# Altium footprint library pulser_driver_footprints.PcbLib: 56 footprints (part 1 of 4)
Each footprint in its own frame and in the unit in brackets; x right, y up, seen from the top. Pads: shape width x height; smd on the part's side, far side on the other; paste and mask are expansions set on the pad; w line width, h text height; cw(c..) or ccw(c..) is an arc to the next point about the centre after c.
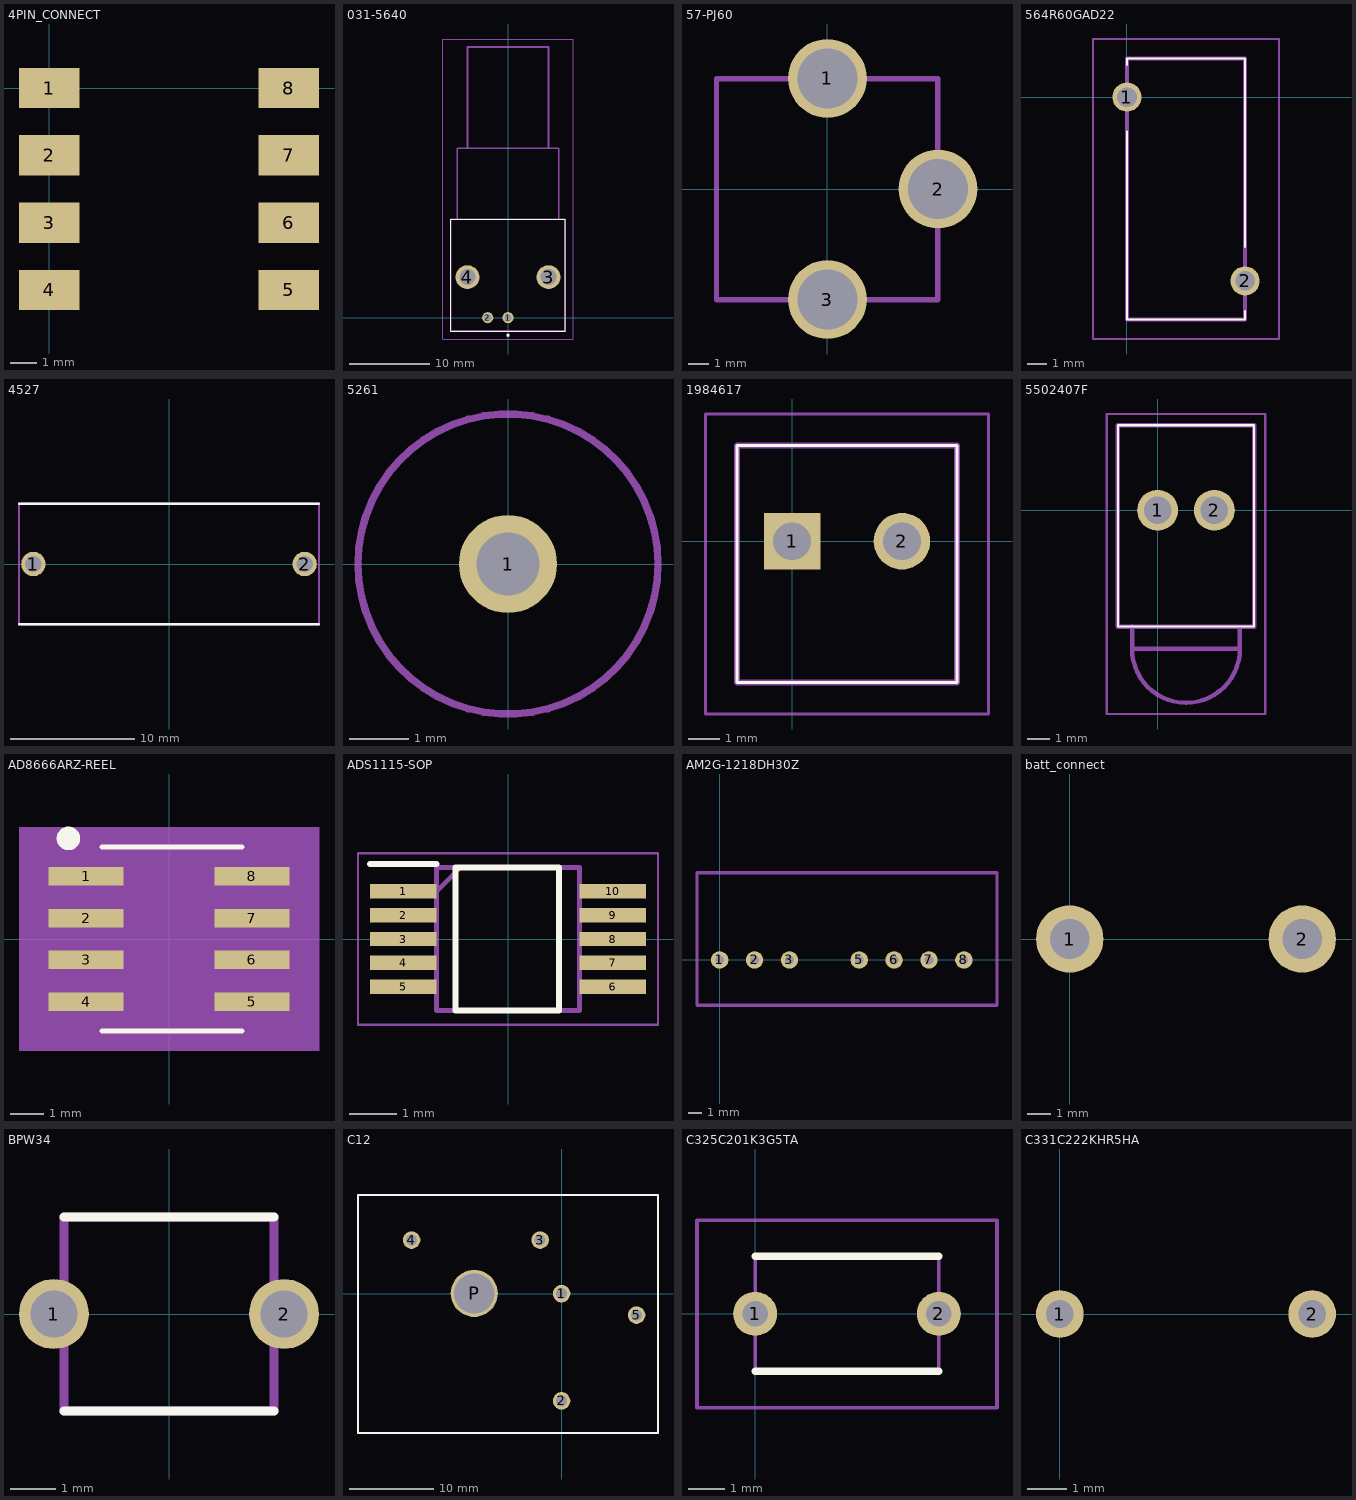
[diagram p0: the footprints below, top view; thin cyan lines are the x and y axes]

## 4PIN_CONNECT [mm]
pads (8):
  rect 2.29x1.52 smd: 1(0,0) 2(0,-2.54) 3(0,-5.08) 4(0,-7.62) 5(9.04,-7.62) 6(9.04,-5.08) 7(9.04,-2.54) 8(9.04,0)

## 031-5640 [mm]
pads (4):
  round 1.4 hole 0.9: 1(0,0) 2(-2.54,0)
  round 3 hole 2: 3(5.08,5.08) 4(-5.08,5.08)
Top Overlay:
  lines w0.1: -7.2,-1.67 7.2,-1.67 7.2,12.33 -7.2,12.33 -7.2,-1.67
  lines w0.2: 0,-2.3 cw(c0,-2.2) 0,-2.1 cw(c0,-2.2) 0,-2.3
Mechanical 13:
  lines w0.2: -6.35,12.33 -6.35,21.23 6.35,21.23 6.35,12.33 ; -5.08,21.23 -5.08,33.93 5.08,33.93 5.08,21.23 ; -7.2,-1.67 7.2,-1.67 7.2,12.33 -7.2,12.33 -7.2,-1.67
Mechanical 15:
  lines w0.1: -8.2,-2.67 8.2,-2.67 8.2,34.93 -8.2,34.93 -8.2,-2.67
3D body "031-5640.stp": height 16.07, standoff -3.59, extent -7.366,-13.081 7.366,33.655

## 57-PJ60 [mil]
pads (3):
  round 150 hole 114: 1(0,210.5) 2(210.5,0) 3(0,-210.5)
Mechanical 15:
  lines w10: -211,-211 210,-211 210,210 -211,210 -211,-211

## 564R60GAD22 [mm]
pads (2):
  round 1.515 hole 1.01: 1(0,0) 2(6.1,-9.5)
Top Overlay:
  lines w0.1: 0,-1.778 0,-11.5 6.1,-11.5 6.1,-11.049 ; 0,1.651 0,2 6.1,2 6.1,-7.747
Mechanical 13:
  lines w0.2: 0,-11.5 6.1,-11.5 6.1,2 0,2 0,-11.5
Mechanical 15:
  lines w0.1: -1.758,-12.5 7.857,-12.5 7.857,3 -1.758,3 -1.758,-12.5
3D body "564R60GAD22.stp": height 13.6, standoff -5, extent -0.402,-11.5 6.505,2

## 4527 [mm]
pads (2):
  round 1.97 hole 1.32: 1(-10.92,0) 2(10.92,0)
Top Overlay:
  lines w0.2: -12.08,-4.85 12.08,-4.85 ; -12.08,4.85 12.08,4.85
Mechanical 13:
  lines w0.2: -12.08,-4.85 12.08,-4.85 12.08,4.85 -12.08,4.85 -12.08,-4.85
3D body "4527.stp": height 10.69, standoff -4.41, extent -12.1,-4.85 12.1,4.85

## 5261 [mm]
pads (1):
  round 1.66 hole 1.06: 1(0,0)
Mechanical 15:
  circle w0.127: c0,0 r2.54

## 1984617 [mm]
pads (2):
  rect 1.8x1.8 hole 1.2: 1(0,0)
  round 1.8 hole 1.2: 2(3.5,0)
Top Overlay:
  lines w0.1: -1.75,-4.5 -1.75,3.05 5.25,3.05 5.25,-4.5 -1.75,-4.5
Mechanical 13:
  lines w0.2: -1.75,-4.5 -1.75,3.05 5.25,3.05 5.25,-4.5 -1.75,-4.5
Mechanical 15:
  lines w0.1: -2.75,-5.5 -2.75,4.05 6.25,4.05 6.25,-5.5 -2.75,-5.5
3D body "1984617.stp": height 9.15, standoff -4.5, extent -1.88,-4.5 5.82,3.05

## 5502407F [mm]
pads (2):
  round 1.83 hole 1.22: 1(0,0) 2(2.54,0)
Top Overlay:
  lines w0.1: -1.78,-5.203 -1.78,3.81 4.32,3.81 4.32,-5.203 -1.78,-5.203
Mechanical 13:
  lines w0.2: -1.145,-5.203 -1.145,-6.21 ; 3.685,-5.21 3.685,-6.21 ; -1.145,-6.21 ccw(c1.27,-6.21) 3.685,-6.21 ; -1.145,-6.21 3.685,-6.21 ; -1.78,-5.21 -1.78,3.81 4.32,3.81 4.32,-5.21 -1.78,-5.21
Mechanical 15:
  lines w0.1: -2.28,-9.125 -2.28,4.31 4.82,4.31 4.82,-9.125 -2.28,-9.125

## AD8666ARZ-REEL [mil] "AD8666ARZ-REELCT-ND"
pads (8):
  rect 90x22 smd paste+0 mask+0: 1(-99,75) 2(-99,25) 3(-99,-25) 4(-99,-75) 5(99,-75) 6(99,-25) 7(99,25) 8(99,75)
Top Overlay:
  circle w14: c-120,120 r7.07
  lines w6: -80,-110 87,-110 ; -80,110 87,110
Mechanical 5:
  region: 179,-133.5 -179,-133.5 -179,133.5 179,133.5
Mechanical 13:
  circle w14: c-50,70 r7.07
  lines w0: -12,98.5 ccw(c0,98.5) 12,98.5
  lines w1: -122,-85 -78.5,-85 -78.5,-65 -122,-65 -122,-85 ; -122,-35 -78.5,-35 -78.5,-15 -122,-15 -122,-35 ; -122,15 -78.5,15 -78.5,35 -122,35 -122,15 ; -122,65 -78.5,65 -78.5,85 -122,85 -122,65 ; -78.5,-98.5 -78.5,98.5 78.5,98.5 78.5,-98.5 -78.5,-98.5 ; 78.5,-85 122,-85 122,-65 78.5,-65 78.5,-85 ; 78.5,-35 122,-35 122,-15 78.5,-15 78.5,-35 ; 78.5,15 122,15 122,35 78.5,35 78.5,15 ; 78.5,65 122,65 122,85 78.5,85 78.5,65
Mechanical 15:
  region: -98.5,-106 -164,-106 -164,106 -98.5,106 -98.5,118.5 98.5,118.5 98.5,106 164,106 164,-106 98.5,-106 98.5,-118.5 -98.5,-118.5
  lines w6: -164,-106 -98.5,-106 -98.5,-118.5 98.5,-118.5 98.5,-106 164,-106 164,106 98.5,106 98.5,118.5 -98.5,118.5 -98.5,106 -164,106 -164,-106
3D body: height 10, standoff 0, extent 0,0 10,10

## ADS1115-SOP [mm]
pads (10):
  rect 1.4x0.3 smd: 1(-2.2,1) 2(-2.2,0.5) 3(-2.2,0) 4(-2.2,-0.5) 5(-2.2,-1) 6(2.2,-1) 7(2.2,-0.5) 8(2.2,0) 9(2.2,0.5) 10(2.2,1)
Top Overlay:
  lines w0.127: -2.9,1.575 -1.5,1.575 ; -1.1,-1.5 -1.1,1.5 1.075,1.5 1.075,-1.5 -1.1,-1.5
Mechanical 13:
  lines w0.1: -1.5,1 -1,1.5 ; -1.5,-1.5 -1.5,1.5 1.5,1.5 1.5,-1.5 -1.5,-1.5
Mechanical 15:
  lines w0.05: -3.15,-1.8 -3.15,1.8 3.15,1.8 3.15,-1.8 -3.15,-1.8
3D body "ADS1115IDGST.stp": height 1.1, standoff 0, extent -2.45,-1.5 2.45,1.5

## AM2G-1218DH30Z [mm]
pads (7):
  round 1.27 hole 0.635: 1(0,0) 2(2.54,0) 3(5.08,0) 5(10.16,0) 6(12.7,0) 7(15.24,0) 8(17.78,0)
Mechanical 15:
  lines w0.254: -1.651,-3.302 -1.651,6.35 20.193,6.35 20.193,-3.302 -1.651,-3.302

## batt_connect [mm]
pads (2):
  round 2.9 hole 1.7: 1(0,0) 2(10,0)

## BPW34 [mm]
pads (2):
  round 1.55 hole 1.05: 1(-2.55,0) 2(2.55,0)
Top Overlay:
  lines w0.2: -2.325,-2.15 2.325,-2.15 ; -2.325,2.15 2.325,2.15
Mechanical 13:
  lines w0.2: -2.325,-2.15 2.325,-2.15 2.325,2.15 -2.325,2.15 -2.325,-2.15

## C12 [mil]
pads (6):
  round 82 hole 52: 1(0,0) 2(0,-500) 3(-100,250) 4(-700,250) 5(350,-100)
  round 220 hole 187: P(-407.48,0.98)
Top Overlay:
  lines w10: -950,-650 450,-650 450,460 -950,460 -950,-650
Mechanical 13:
  lines w10: -950,-650 450,-650 450,460 -950,460 -950,-650

## C325C201K3G5TA [mm]
pads (2):
  round 1.217 hole 0.71: 1(0,0) 2(5.08,0)
Top Overlay:
  lines w0.2: 0,-1.59 5.08,-1.59 ; 0,1.59 5.08,1.59
Mechanical 13:
  lines w0.1: 0,-1.59 0,1.59 5.08,1.59 5.08,-1.59 0,-1.59
Mechanical 15:
  lines w0.1: -1.609,-2.6 -1.609,2.59 6.689,2.59 6.689,-2.6 -1.609,-2.6
3D body "C325C201K3G5TA.stp": height 7.72, standoff -5, extent -0.253,-1.59 5.335,1.59

## C331C222KHR5HA [mm]
pads (2):
  round 1.2 hole 0.7: 1(0,0) 2(6.35,0)
3D body "C331C222KHR5HA.step": height 10.91, standoff -6.75, extent -0.635,-3.177 6.985,3.178